# Altium schematic symbol library Caps$.SchLib: 144 symbols (part 2 of 2)
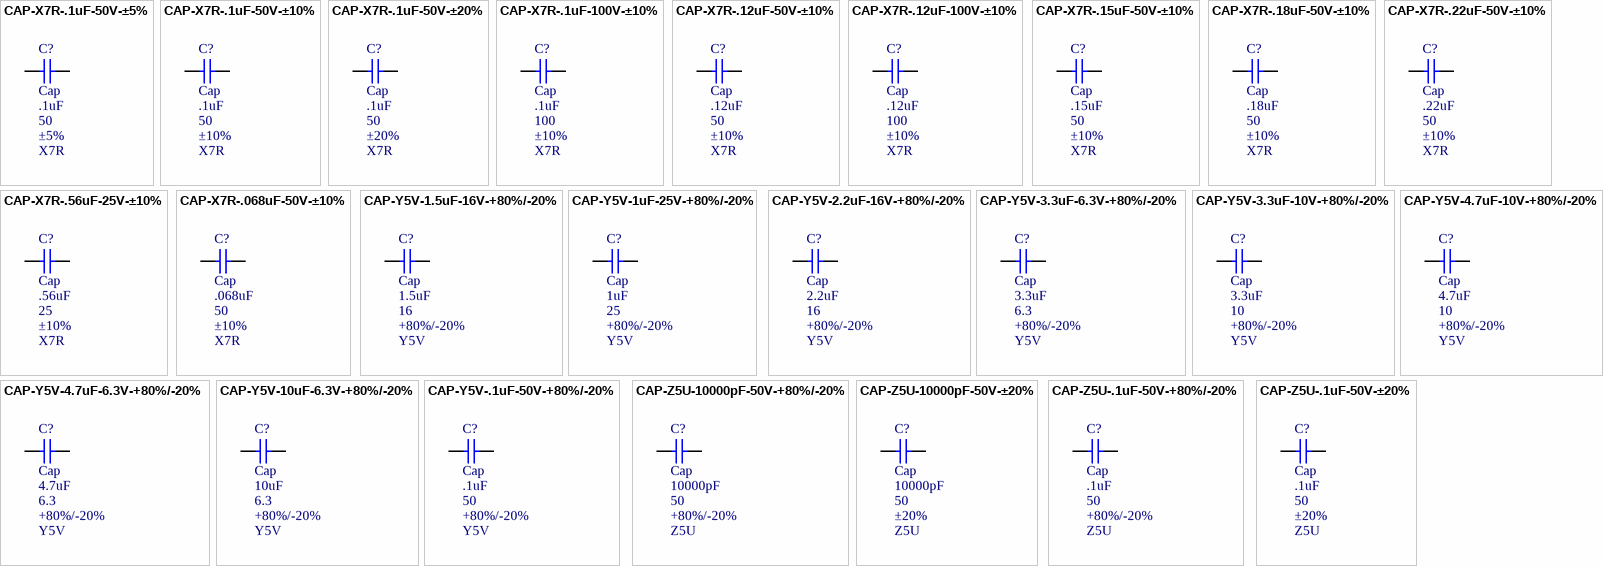
[diagram p4: symbols CAP-X7R-.1uF-50V-±5% to CAP-Z5U-.1uF-50V-±20%]

## CAP-Y5V-1uF-25V-+80%/-20%
designator C?, comment Cap  value 1uF  WV: 25  Tolerance: +80%/-20%  Type: Y5V
CAP CER 1uF 25v Y5V 0805; MPN: C0805C105Z3VACTU; Name: CAP-Y5V-1uF-25V-+80%/-20%; PN: 399-1293-1-ND; URL: http://www.digikey.ca/product-detail/en/C0805C105Z3VACTU/399-1293-1-ND
footprint CAPC2012X09M (Chip Capacitor, 2-Leads, Body 2.00x1.25mm, IPC Low Density)
pins: 1, 2

## CAP-Y5V-2.2uF-16V-+80%/-20%
designator C?, comment Cap  value 2.2uF  WV: 16  Tolerance: +80%/-20%  Type: Y5V
CAP CER 2.2uF 16v Y5V 0805; MPN: C0805C225Z4VACTU; Name: CAP-Y5V-2.2uF-16V-+80%/-20%; PN: 399-1295-1-ND; URL: http://www.digikey.ca/product-detail/en/C0805C225Z4VACTU/399-1295-1-ND
footprint CAPC2012X09M (Chip Capacitor, 2-Leads, Body 2.00x1.25mm, IPC Low Density)
pins: 1, 2

## CAP-Y5V-3.3uF-6.3V-+80%/-20%
designator C?, comment Cap  value 3.3uF  WV: 6.3  Tolerance: +80%/-20%  Type: Y5V
CAP CER 3.3uF 6.3v Y5V 0805; MPN: C0805C335Z9VACTU; Name: CAP-Y5V-3.3uF-6.3V-+80%/-20%; PN: 399-3223-1-ND; URL: http://www.digikey.ca/product-detail/en/C0805C335Z9VACTU/399-3223-1-ND
footprint CAPC2012X09M (Chip Capacitor, 2-Leads, Body 2.00x1.25mm, IPC Low Density)
pins: 1, 2

## CAP-Y5V-3.3uF-10V-+80%/-20%
designator C?, comment Cap  value 3.3uF  WV: 10  Tolerance: +80%/-20%  Type: Y5V
CAP CER 3.3uF 10v Y5V 0805; MPN: C0805C335Z8VACTU; Name: CAP-Y5V-3.3uF-10V-+80%/-20%; PN: 399-3222-1-ND; URL: http://www.digikey.ca/product-detail/en/C0805C335Z8VACTU/399-3222-1-ND
footprint CAPC2012X09M (Chip Capacitor, 2-Leads, Body 2.00x1.25mm, IPC Low Density)
pins: 1, 2

## CAP-Y5V-4.7uF-6.3V-+80%/-20%
designator C?, comment Cap  value 4.7uF  WV: 6.3  Tolerance: +80%/-20%  Type: Y5V
CAP CER 4.7uF 6.3v Y5V 0805; MPN: C0805C475Z9VACTU; Name: CAP-Y5V-4.7uF-6.3V-+80%/-20%; PN: 399-3225-1-ND; URL: http://www.digikey.ca/product-detail/en/C0805C475Z9VACTU/399-3225-1-ND
footprint CAPC2012X09M (Chip Capacitor, 2-Leads, Body 2.00x1.25mm, IPC Low Density)
pins: 1, 2

## CAP-Y5V-4.7uF-10V-+80%/-20%
designator C?, comment Cap  value 4.7uF  WV: 10  Tolerance: +80%/-20%  Type: Y5V
CAP CER 4.7uF 10v Y5V 0805; MPN: C0805C475Z8VACTU; Name: CAP-Y5V-4.7uF-10V-+80%/-20%; PN: 399-3224-1-ND; URL: http://www.digikey.ca/product-detail/en/C0805C475Z8VACTU/399-3224-1-ND
footprint CAPC2012X09M (Chip Capacitor, 2-Leads, Body 2.00x1.25mm, IPC Low Density)
pins: 1, 2

## CAP-Y5V-10uF-6.3V-+80%/-20%
designator C?, comment Cap  value 10uF  WV: 6.3  Tolerance: +80%/-20%  Type: Y5V
CAP CER 10uF 6.3v Y5V 0805; MPN: C0805C106Z9VACTU; Name: CAP-Y5V-10uF-6.3V-+80%/-20%; PN: 399-3295-1-ND; URL: http://www.digikey.ca/product-detail/en/C0805C106Z9VACTU/399-3295-1-ND
footprint CAPC2012X09M (Chip Capacitor, 2-Leads, Body 2.00x1.25mm, IPC Low Density)
pins: 1, 2

## CAP-Y5V-.1uF-50V-+80%/-20%
designator C?, comment Cap  value .1uF  WV: 50  Tolerance: +80%/-20%  Type: Y5V
CAP CER .1uF 50v Y5V 0805; MPN: C0805C104Z5VACTU; Name: CAP-Y5V-.1uF-50V-+80%/-20%; PN: 399-1177-1-ND; URL: http://www.digikey.ca/product-detail/en/C0805C104Z5VACTU/399-1177-1-ND
footprint CAPC2012X09M (Chip Capacitor, 2-Leads, Body 2.00x1.25mm, IPC Low Density)
pins: 1, 2

## CAP-Z5U-10000pF-50V-+80%/-20%
designator C?, comment Cap  value 10000pF  WV: 50  Tolerance: +80%/-20%  Type: Z5U
CAP CER 10000pF 50v Z5U 0805; MPN: C0805C103Z5UACTU; Name: CAP-Z5U-10000pF-50V-+80%/-20%; PN: 399-1173-1-ND; URL: http://www.digikey.ca/product-detail/en/C0805C103Z5UACTU/399-1173-1-ND
footprint CAPC2012X09M (Chip Capacitor, 2-Leads, Body 2.00x1.25mm, IPC Low Density)
pins: 1, 2

## CAP-Z5U-10000pF-50V-±20%
designator C?, comment Cap  value 10000pF  WV: 50  Tolerance: ±20%  Type: Z5U
CAP CER 10000pF 50v Z5U 0805; MPN: C0805C103M5UACTU; Name: CAP-Z5U-10000pF-50V-±20%; PN: 399-1174-1-ND; URL: http://www.digikey.ca/product-detail/en/C0805C103M5UACTU/399-1174-1-ND
footprint CAPC2012X09M (Chip Capacitor, 2-Leads, Body 2.00x1.25mm, IPC Low Density)
pins: 1, 2

## CAP-Z5U-.1uF-50V-+80%/-20%
designator C?, comment Cap  value .1uF  WV: 50  Tolerance: +80%/-20%  Type: Z5U
CAP CER .1uF 50v Z5U 0805; MPN: C0805C104Z5UACTU; Name: CAP-Z5U-.1uF-50V-+80%/-20%; PN: 399-1175-1-ND; URL: http://www.digikey.ca/product-detail/en/C0805C104Z5UACTU/399-1175-1-ND
footprint CAPC2012X09M (Chip Capacitor, 2-Leads, Body 2.00x1.25mm, IPC Low Density)
pins: 1, 2

## CAP-Z5U-.1uF-50V-±20%
designator C?, comment Cap  value .1uF  WV: 50  Tolerance: ±20%  Type: Z5U
CAP CER .1uF 50v Z5U 0805; MPN: C0805C104M5UACTU; Name: CAP-Z5U-.1uF-50V-±20%; PN: 399-1176-1-ND; URL: http://www.digikey.ca/product-detail/en/C0805C104M5UACTU/399-1176-1-ND
footprint CAPC2012X09M (Chip Capacitor, 2-Leads, Body 2.00x1.25mm, IPC Low Density)
pins: 1, 2